# EAGLE library part STD043F10X1 (library con-pinheader-standard)
female standard header 2mm, 4.3mm height
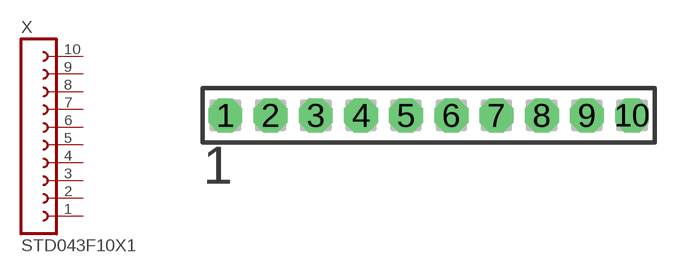
[diagram p4: symbol with the pads of STD043F10X1-2.00; footprint STD043F10X1-2.00]

Designator prefix X

## STD043F10X1-2.00MM (OC_FARNELL: unknown; OC_NEWARK: unknown)  [STD043F10X1-2.00]
1  1  pas
2  2  pas
3  3  pas
4  4  pas
5  5  pas
6  6  pas
7  7  pas
8  8  pas
9  9  pas
10  10  pas

## Footprint STD043F10X1-2.00 (pad centres in mm)
female standard header 2mm, 4.3mm height
drill 0.8 pad 1.5 octagon: 1 -9,0; 2 -7,0; 3 -5,0; 4 -3,0; 5 -1,0; 6 1,0; 7 3,0; 8 5,0; 9 7,0; 10 9,0